# Altium schematic symbol library EHK2V.SchLib: 23 symbols
Pins are listed as number, name and electrical type; pins without a type are passive.

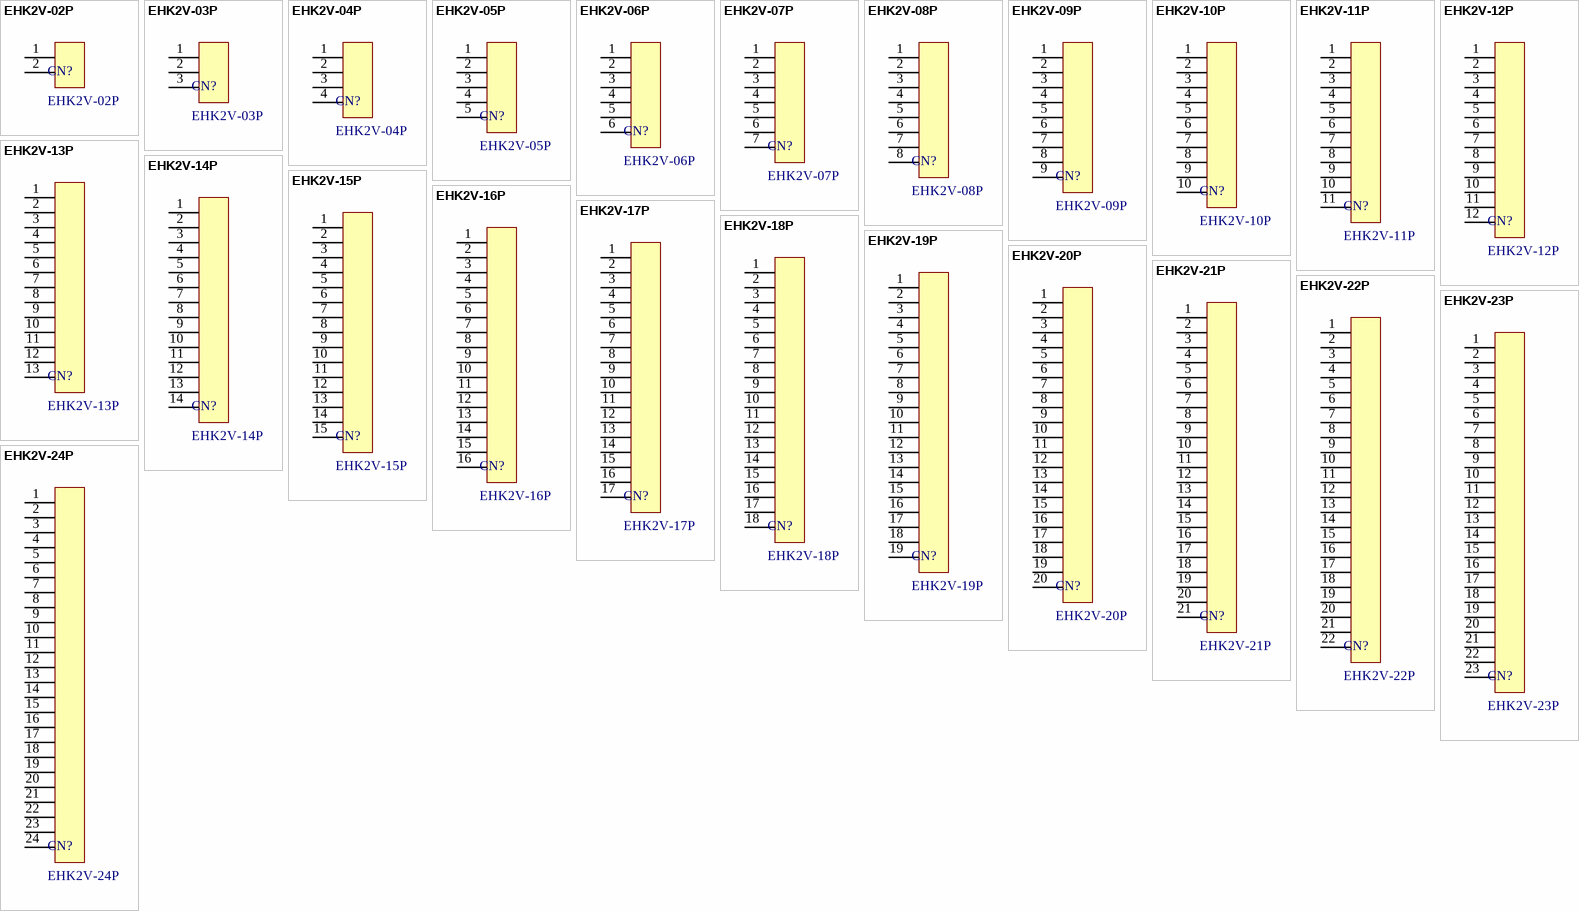
[diagram p0: symbols EHK2V-02P to EHK2V-24P]

## EHK2V-02P
designator CN?
PCB Terminal Blocks
footprint EHK2V-02P (PCB Terminal Blocks)
pins: 1, 2

## EHK2V-03P
designator CN?
PCB Terminal Blocks
footprint EHK2V-03P (PCB Terminal Blocks)
pins: 1, 2, 3

## EHK2V-04P
designator CN?
PCB Terminal Blocks
footprint EHK2V-04P (PCB Terminal Blocks)
pins: 1, 2, 3, 4

## EHK2V-05P
designator CN?
PCB Terminal Blocks
footprint EHK2V-05P (PCB Terminal Blocks)
pins: 1, 2, 3, 4, 5

## EHK2V-06P
designator CN?
PCB Terminal Blocks
footprint EHK2V-06P (PCB Terminal Blocks)
pins: 1, 2, 3, 4, 5, 6

## EHK2V-07P
designator CN?
PCB Terminal Blocks
footprint EHK2V-07P (PCB Terminal Blocks)
pins: 1, 2, 3, 4, 5, 6, 7

## EHK2V-08P
designator CN?
PCB Terminal Blocks
footprint EHK2V-08P (PCB Terminal Blocks)
pins: 1, 2, 3, 4, 5, 6, 7, 8

## EHK2V-09P
designator CN?
PCB Terminal Blocks
footprint EHK2V-09P (PCB Terminal Blocks)
pins: 1, 2, 3, 4, 5, 6, 7, 8, 9

## EHK2V-10P
designator CN?
PCB Terminal Blocks
footprint EHK2V-10P (PCB Terminal Blocks)
pins: 1, 2, 3, 4, 5, 6, 7, 8, 9, 10

## EHK2V-11P
designator CN?
PCB Terminal Blocks
footprint EHK2V-11P (PCB Terminal Blocks)
pins: 1, 2, 3, 4, 5, 6, 7, 8, 9, 10, 11

## EHK2V-12P
designator CN?
PCB Terminal Blocks
footprint EHK2V-12P (PCB Terminal Blocks)
pins: 1, 2, 3, 4, 5, 6, 7, 8, 9, 10, 11, 12

## EHK2V-13P
designator CN?
PCB Terminal Blocks
footprint EHK2V-13P (PCB Terminal Blocks)
pins: 1, 2, 3, 4, 5, 6, 7, 8, 9, 10, 11, 12, 13

## EHK2V-14P
designator CN?
PCB Terminal Blocks
footprint EHK2V-14P (PCB Terminal Blocks)
pins: 1, 2, 3, 4, 5, 6, 7, 8, 9, 10, 11, 12, 13, 14

## EHK2V-15P
designator CN?
PCB Terminal Blocks
footprint EHK2V-15P (PCB Terminal Blocks)
pins: 1, 2, 3, 4, 5, 6, 7, 8, 9, 10, 11, 12, 13, 14, 15

## EHK2V-16P
designator CN?
PCB Terminal Blocks
footprint EHK2V-16P (PCB Terminal Blocks)
pins: 1, 2, 3, 4, 5, 6, 7, 8, 9, 10, 11, 12, 13, 14, 15, 16

## EHK2V-17P
designator CN?
PCB Terminal Blocks
footprint EHK2V-17P (PCB Terminal Blocks)
pins: 1, 2, 3, 4, 5, 6, 7, 8, 9, 10, 11, 12, 13, 14, 15, 16, 17

## EHK2V-18P
designator CN?
PCB Terminal Blocks
footprint EHK2V-18P (PCB Terminal Blocks)
pins: 1, 2, 3, 4, 5, 6, 7, 8, 9, 10, 11, 12, 13, 14, 15, 16, 17, 18

## EHK2V-19P
designator CN?
PCB Terminal Blocks
footprint EHK2V-19P (PCB Terminal Blocks)
pins: 1, 2, 3, 4, 5, 6, 7, 8, 9, 10, 11, 12, 13, 14, 15, 16, 17, 18, 19

## EHK2V-20P
designator CN?
PCB Terminal Blocks
footprint EHK2V-20P (PCB Terminal Blocks)
pins: 1, 2, 3, 4, 5, 6, 7, 8, 9, 10, 11, 12, 13, 14, 15, 16, 17, 18, 19, 20

## EHK2V-21P
designator CN?
PCB Terminal Blocks
footprint EHK2V-21P (PCB Terminal Blocks)
pins: 1, 2, 3, 4, 5, 6, 7, 8, 9, 10, 11, 12, 13, 14, 15, 16, 17, 18, 19, 20, 21

## EHK2V-22P
designator CN?
PCB Terminal Blocks
footprint EHK2V-22P (PCB Terminal Blocks)
pins: 1, 2, 3, 4, 5, 6, 7, 8, 9, 10, 11, 12, 13, 14, 15, 16, 17, 18, 19, 20, 21, 22

## EHK2V-23P
designator CN?
PCB Terminal Blocks
footprint EHK2V-23P (PCB Terminal Blocks)
pins: 1, 2, 3, 4, 5, 6, 7, 8, 9, 10, 11, 12, 13, 14, 15, 16, 17, 18, 19, 20, 21, 22, 23

## EHK2V-24P
designator CN?
PCB Terminal Blocks
footprint EHK2V-24P (PCB Terminal Blocks)
pins: 1, 2, 3, 4, 5, 6, 7, 8, 9, 10, 11, 12, 13, 14, 15, 16, 17, 18, 19, 20, 21, 22, 23, 24